# Altium schematic symbol library Schlib1.SchLib: 20 symbols
Pins are listed as number, name and electrical type; pins without a type are passive.

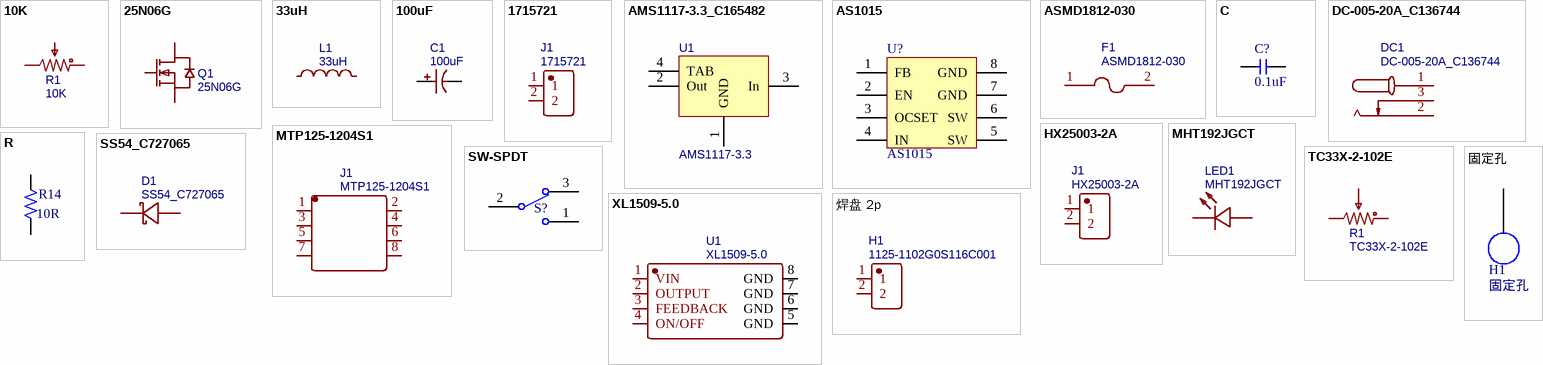
[diagram p0: symbols 10K to 焊盘 2p]

## 10K
designator R1
电位器; BOM_Manufacturer: Chengdu Guosheng Tech; BOM_Manufacturer Part: 3296W-1-103; nameAlias: Resistance (Ohms); Contributor: LCSC; BOM_Supplier: LCSC; BOM_Supplier Part: C118954; Resistance(Ohms): 10K; BOM_JLCPCB Part Class: Extended Part; spicePre: R; spiceSymbolName: 3296W-1-103
footprint RES-ADJ-TH_3P-L10.0-W10.0-P2.50-L
pins: 1, 2, 3

## 25N06G
designator Q1
BOM_Manufacturer: Chongqing Pingwei Tech; Contributor: LCSC; BOM_Supplier: LCSC; BOM_Supplier Part: C432617; BOM_Manufacturer Part: 25N06G; BOM_JLCPCB Part Class: Extended Part; spicePre: Q; spiceSymbolName: 25N06G
footprint TO-252-2_L6.6-W6.1-P4.57-LS9.9-BR-CW
pins: 1 G, 2 D, 3 S

## 33uH
designator L1
BOM_Manufacturer: SXN; BOM_Manufacturer Part: SMMS0650-330M; nameAlias: Inductance; BOM_Supplier: LCSC; BOM_Supplier Part: C149587; BOM_JLCPCB Part Class: Extended Part; spicePre: L; spiceSymbolName: SMMS0650-330M
footprint IND-SMD_L7.1-W6.6
pins: 1, 2

## 100uF
designator C1
BOM_Manufacturer: SEMTECH; BOM_Manufacturer Part: CK1C101M-CRE54; nameAlias: Capacitance; Contributor: LCSC; BOM_Supplier: LCSC; BOM_Supplier Part: C129250; BOM_JLCPCB Part Class: Extended Part; spicePre: C; spiceSymbolName: CK1C101M-CRE54
footprint CAP-SMD_BD6.3-L6.6-W6.6-FD
pins: 1, 2

## 1715721
designator J1
BOM_Manufacturer: Phoenix Contact; Contributor: LCSC; BOM_Supplier: LCSC; BOM_Supplier Part: C480516; BOM_Manufacturer Part: 1715721; BOM_JLCPCB Part Class: Extended Part; spicePre: U; spiceSymbolName: 1715721
footprint KF301-5.0-2P (可拼接端子/6A)
pins: 1, 2

## AMS1117-3.3_C165482
designator U1, comment AMS1117-3.3
3.3V稳压芯片; BOM_Manufacturer: SK; Contributor: LCSC; SMT Type: Extend; BOM_Supplier: LCSC; BOM_Supplier Part: C165482; BOM_Manufacturer Part: AMS1117-3.3; BOM_LCSC Assembly: Yes; spicePre: U; spiceSymbolName: AMS1117-3.3_C165482
footprint AMS1117
pins: 1 GND, 2 Out, 3 In, 4 TAB

## AS1015
designator U?
可调升压芯片; 版权归属: 源创客; BOM名称: 可调升压芯片; 学习资源: www.ooocke.com
footprint SOP8_N (5*6*1.8mm（长宽高）)
footprint SOP8_L (5*6*1.8mm（长宽高）)
footprint SOP8_M (5*6*1.8mm（长宽高）)
pins: 1 FB (power), 2 EN (power), 3 OCSET (power), 4 IN (power), 5 SW (power), 6 SW (power), 7 GND (power), 8 GND (power)

## ASMD1812-030
designator F1
BOM_Manufacturer: JDTFUSE; Contributor: LCSC; BOM_Supplier: LCSC; BOM_Manufacturer Part: ASMD1812-030; BOM_Supplier Part: C135357; BOM_JLCPCB Part Class: Extended Part; spicePre: F; spiceSymbolName: ASMD1812-030
footprint F1812
pins: 1, 2

## C
designator C?, comment 0.1uF
footprint 0603C
pins: 1, 2

## DC-005-20A_C136744
designator DC1
BOM_Manufacturer: HRO; Contributor: LCSC; BOM_Supplier: LCSC; BOM_Manufacturer Part: DC-005-20A; BOM_Supplier Part: C136744; BOM_JLCPCB Part Class: Extended Part; spicePre: D; spiceSymbolName: DC-005-20A_C136744
footprint DC-IN-TH_DC-005-20A
pins: 1, 2, 3

## HX25003-2A
designator J1
BOM_Manufacturer: HX(Zhejiang Yueqing Hongxing Elec); Contributor: LCSC; BOM_Supplier: LCSC; BOM_Supplier Part: C442299; BOM_Manufacturer Part: HX25003-2A; BOM_JLCPCB Part Class: Extended Part; spicePre: C; spiceSymbolName: HX25003-2A
footprint XH2.54-WI-2P (接插件，2P)
pins: 1, 2

## MHT192JGCT
designator LED1
BOM_Manufacturer: MEIHUA; Contributor: LCSC; BOM_Supplier: LCSC; BOM_Supplier Part: C473820; BOM_Manufacturer Part: MHT192JGCT; BOM_JLCPCB Part Class: Extended Part; spicePre: L; spiceSymbolName: MHT192JGCT
footprint LED0603-RD
pins: 1 -, 2 +

## MTP125-1204S1
designator J1
插针-弯; BOM_Manufacturer: MINTRON; Contributor: LCSC; BOM_Supplier: LCSC; BOM_Supplier Part: C358693; BOM_Manufacturer Part: MTP125-1204S1; BOM_JLCPCB Part Class: Extended Part; spicePre: U; spiceSymbolName: MTP125-1204S1
footprint HDR-TH_8P-P2.54-V-F-R2-C4-S2.54-1
pins: 1, 2, 3, 4, 5, 6, 7, 8

## R
designator R14, comment 10R
footprint 0603R
pins: 1, 2

## SS54_C727065
designator D1
肖特基二极管; BOM_Manufacturer: TWGMC; BOM_Manufacturer Part: SS54; Contributor: LCSC; BOM_Supplier: LCSC; BOM_Supplier Part: C727065; BOM_JLCPCB Part Class: Extended Part; spicePre: D; spiceSymbolName: SS54_C727065
footprint SMA_L4.3-W2.6-LS5.0-RD
pins: 1, 2

## SW-SPDT
designator S?  (value not drawn)
单刀双掷开关 3脚船型、钮子、拨动开关 SPDT Subminiature Toggle Switch; Published: 24-Mar-1999; Publisher: Altium Limited; Price(RMB): 0.000
footprint 钮子开关
pins: 1, 2, 3

## TC33X-2-102E
designator R1
贴片电位器; BOM_Manufacturer: BOURNS; Contributor: LCSC; BOM_Supplier: LCSC; BOM_Supplier Part: C719174; BOM_Manufacturer Part: TC33X-2-102E; BOM_JLCPCB Part Class: Extended Part; spicePre: R; spiceSymbolName: TC33X-2-102E
footprint RES-ADJ-SMD_3P-L3.8-W3.6-P1.90-BL
pins: 1, 2, 3

## XL1509-5.0
designator U1
开关电源3A; BOM_Manufacturer: UMW(友台半导体); Contributor: LCSC; BOM_Supplier: LCSC; BOM_Supplier Part: C2681225; BOM_Manufacturer Part: XL1509-5.0; BOM_JLCPCB Part Class: Extended Part; spicePre: U; spiceSymbolName: XL1509-5.0
footprint SOIC-8_L5.0-W4.0-P1.27-LS6.0-BL
pins: 1 VIN, 2 OUTPUT, 3 FEEDBACK, 4 ON/OFF, 5 GND, 6 GND, 7 GND, 8 GND

## 固定孔
designator H1
footprint Gp-t
pins: 1

## 焊盘 2p
designator H1, comment 1125-1102G0S116C001
毫伏电压表焊盘; BOM_Manufacturer: Wcon(维峰电子); Contributor: LCSC; BOM_Supplier: LCSC; BOM_Supplier Part: C920781; BOM_Manufacturer Part: 1125-1102G0S116C001; spicePre: H; spiceSymbolName: 1125-1102G0S116C001
footprint 焊盘 2p (Footprint not found)
pins: 1, 2